# EAGLE library part PINHD-1X09 (library untitled)
PIN HEADER
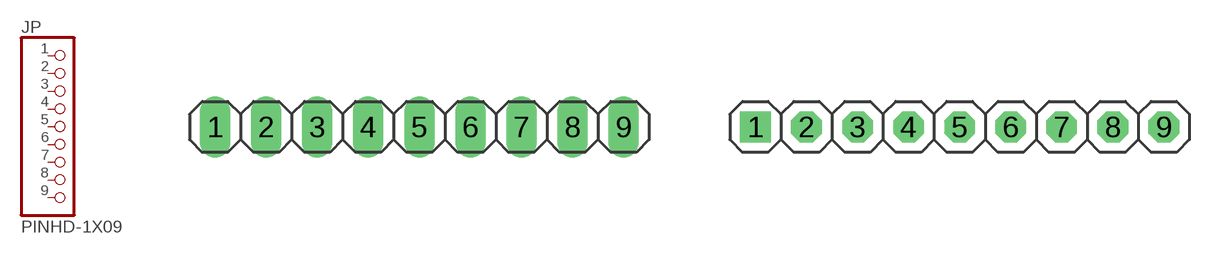
[diagram p3: symbol with the pads of 1X09; footprints 1X09, 1X09-S]

Designator prefix JP

## PINHD-1X09_2.54  [1X09]
1  1  pas
2  2  pas
3  3  pas
4  4  pas
5  5  pas
6  6  pas
7  7  pas
8  8  pas
9  9  pas

## PINHD-1X09_2.54-S  [1X09-S]
Pads as for 1X09

## PINHD-1X09_2.54-90°  [1X09/90]
Pads as for 1X09

## PINHD-1X09_2.54-90°-S  [1X09/90-S]
Pads as for 1X09

## PINHD-1X09_2.00  [1X09M]
Pads as for 1X09

## PINHD-1X09_2.54-SMD  [1X09SMD]
Pads as for 1X09

## PINHD-1X09_2.54-SMD-90°  [1X09SMD/90]
Pads as for 1X09

## Footprint 1X09 (pad centres in mm)
PIN HEADER - 2.54
drill 1.016 long: 1 -10.16,0; 2 -7.62,0; 3 -5.08,0; 4 -2.54,0; 5 0,0; 6 2.54,0; 7 5.08,0; 8 7.62,0; 9 10.16,0

## Footprint 1X09-S (pad centres in mm)
PIN HEADER - 2.54
drill 1.016 square: 1 -10.16,0
drill 1.016 octagon: 2 -7.62,0; 3 -5.08,0; 4 -2.54,0; 5 0,0; 6 2.54,0; 7 5.08,0; 8 7.62,0; 9 10.16,0

## Footprint 1X09/90 (pad centres in mm)
PIN HEADER - 2.54 90°
drill 1.016 long: 1 -10.16,-3.81; 2 -7.62,-3.81; 3 -5.08,-3.81; 4 -2.54,-3.81; 5 0,-3.81; 6 2.54,-3.81; 7 5.08,-3.81; 8 7.62,-3.81; 9 10.16,-3.81

## Footprint 1X09/90-S (pad centres in mm)
PIN HEADER - 2.54 90°
drill 1.016 square: 1 -10.16,-3.81
drill 1.016 octagon: 2 -7.62,-3.81; 3 -5.08,-3.81; 4 -2.54,-3.81; 5 0,-3.81; 6 2.54,-3.81; 7 5.08,-3.81; 8 7.62,-3.81; 9 10.16,-3.81

## Footprint 1X09M (pad centres in mm)
PIN HEADER - 2
drill 0.914 square: 1 -8,0
drill 0.914 round: 2 -6,0; 3 -4,0; 4 -2,0; 5 0,0; 6 2,0; 7 4,0; 8 6,0; 9 8,0

## Footprint 1X09SMD (pad centres in mm)
PIN HEADER - 2.54 SMD
smd 1.016 x 3.302: 1 -1.27,1.27; 2 1.27,-1.27; 3 3.81,1.27; 4 6.35,-1.27; 5 8.89,1.27; 6 11.43,-1.27; 7 13.97,1.27; 8 16.51,-1.27; 9 19.05,1.27

## Footprint 1X09SMD/90 (pad centres in mm)
PIN HEADER - 2.54 90°
smd 1.016 x 1.778: 1 -1.27,-5.08; 2 1.27,-5.08; 3 3.81,-5.08; 4 6.35,-5.08; 5 8.89,-5.08; 6 11.43,-5.08; 7 13.97,-5.08; 8 16.51,-5.08; 9 19.05,-5.08